# Altium schematic symbol library CAP,Cer,4.7uF,16VDC,X5R,0402.Schlib: 1 symbol
Pins are listed as number, name and electrical type; pins without a type are passive.

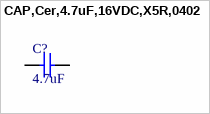
[diagram p0: symbol CAP,Cer,4.7uF,16VDC,X5R,0402]

## CAP,Cer,4.7uF,16VDC,X5R,0402
designator C?, comment 4.7uF
4.7 µF ±20% 16V Ceramic Capacitor X5R 0402 (1005 Metric)
pins: 1, 2